# EAGLE library part TEXAS_INSTRUMENTS-IO_EXPANDER-TCA6408APWR (library Module_ICs)
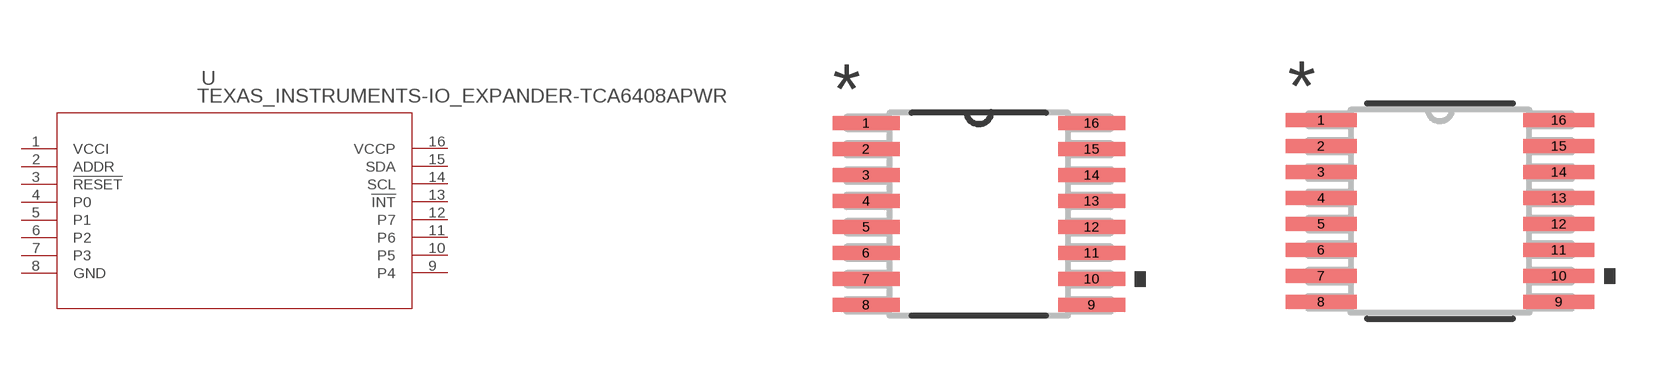
[diagram p59: symbol with the pads of PW16; footprints PW16, PW16-M]

Designator prefix U

## TEXAS_INSTRUMENTS-IO_EXPANDER-TCA6408APWR (DATASHEET_URL: http://www.ti.com/lit/gpn/TCA6408A; DESCRIPTION: Low-Voltage 8-Bit I2C and SMBus I/O Expander; FAMILY_NAME: I2C IO EXPANDER; GENERIC_PART_NUMBER: TCA6408A; INDUSTRY_STD_PKG_TYPE: TSSOP; MANUFACTURER: Texas Instruments; MANUFACTURER_PART_NUMBER: TCA6408APWR; PACKAGE_DESIGNATOR: PW; PIN_COUNT: 16; VENDOR: Texas Instruments)  [PW16]
1  VCCI  pwr
2  ADDR  pas
3  !RESET  in
4  P0  out
5  P1  out
6  P2  out
7  P3  out
8  GND  pwr
9  P4  out
10  P5  out
11  P6  out
12  P7  out
13  !INT  out
14  SCL
15  SDA
16  VCCP  pwr

## TEXAS_INSTRUMENTS-IO_EXPANDER-TCA6408APWRPW16-M (DATASHEET_URL: http://www.ti.com/lit/gpn/TCA6408A; DESCRIPTION: Low-Voltage 8-Bit I2C and SMBus I/O Expander; FAMILY_NAME: I2C IO EXPANDER; GENERIC_PART_NUMBER: TCA6408A; INDUSTRY_STD_PKG_TYPE: TSSOP; MANUFACTURER: Texas Instruments; MANUFACTURER_PART_NUMBER: TCA6408APWR; PACKAGE_DESIGNATOR: PW; PIN_COUNT: 16; VENDOR: Texas Instruments)  [PW16-M]
Pads as for PW16

## TEXAS_INSTRUMENTS-IO_EXPANDER-TCA6408APWRPW16-L (DATASHEET_URL: http://www.ti.com/lit/gpn/TCA6408A; DESCRIPTION: Low-Voltage 8-Bit I2C and SMBus I/O Expander; FAMILY_NAME: I2C IO EXPANDER; GENERIC_PART_NUMBER: TCA6408A; INDUSTRY_STD_PKG_TYPE: TSSOP; MANUFACTURER: Texas Instruments; MANUFACTURER_PART_NUMBER: TCA6408APWR; PACKAGE_DESIGNATOR: PW; PIN_COUNT: 16; VENDOR: Texas Instruments)  [PW16-L]
Pads as for PW16

## Footprint PW16 (pad centres in mm)
smd 1.676 x 0.356: 1 -2.819,2.275; 2 -2.819,1.625; 3 -2.819,0.975; 4 -2.819,0.325; 5 -2.819,-0.325; 6 -2.819,-0.975; 7 -2.819,-1.625; 8 -2.819,-2.275; 9 2.819,-2.275; 10 2.819,-1.625; 11 2.819,-0.975; 12 2.819,-0.325; 13 2.819,0.325; 14 2.819,0.975; 15 2.819,1.625; 16 2.819,2.275

## Footprint PW16-M (pad centres in mm)
smd 1.778 x 0.356: 1 -2.972,2.275; 2 -2.972,1.625; 3 -2.972,0.975; 4 -2.972,0.325; 5 -2.972,-0.325; 6 -2.972,-0.975; 7 -2.972,-1.625; 8 -2.972,-2.275; 9 2.972,-2.275; 10 2.972,-1.625; 11 2.972,-0.975; 12 2.972,-0.325; 13 2.972,0.325; 14 2.972,0.975; 15 2.972,1.625; 16 2.972,2.275

## Footprint PW16-L (pad centres in mm)
smd 1.168 x 0.305: 1 -2.87,2.275; 2 -2.87,1.625; 3 -2.87,0.975; 4 -2.87,0.325; 5 -2.87,-0.325; 6 -2.87,-0.975; 7 -2.87,-1.625; 8 -2.87,-2.275; 9 2.87,-2.275; 10 2.87,-1.625; 11 2.87,-0.975; 12 2.87,-0.325; 13 2.87,0.325; 14 2.87,0.975; 15 2.87,1.625; 16 2.87,2.275